# Altium footprint library MODULOS_RF.PcbLib: 10 footprints
Each footprint in its own frame and in the unit in brackets; x right, y up, seen from the top. Pads: shape width x height; smd on the part's side, far side on the other; paste and mask are expansions set on the pad; w line width, h text height; cw(c..) or ccw(c..) is an arc to the next point about the centre after c.
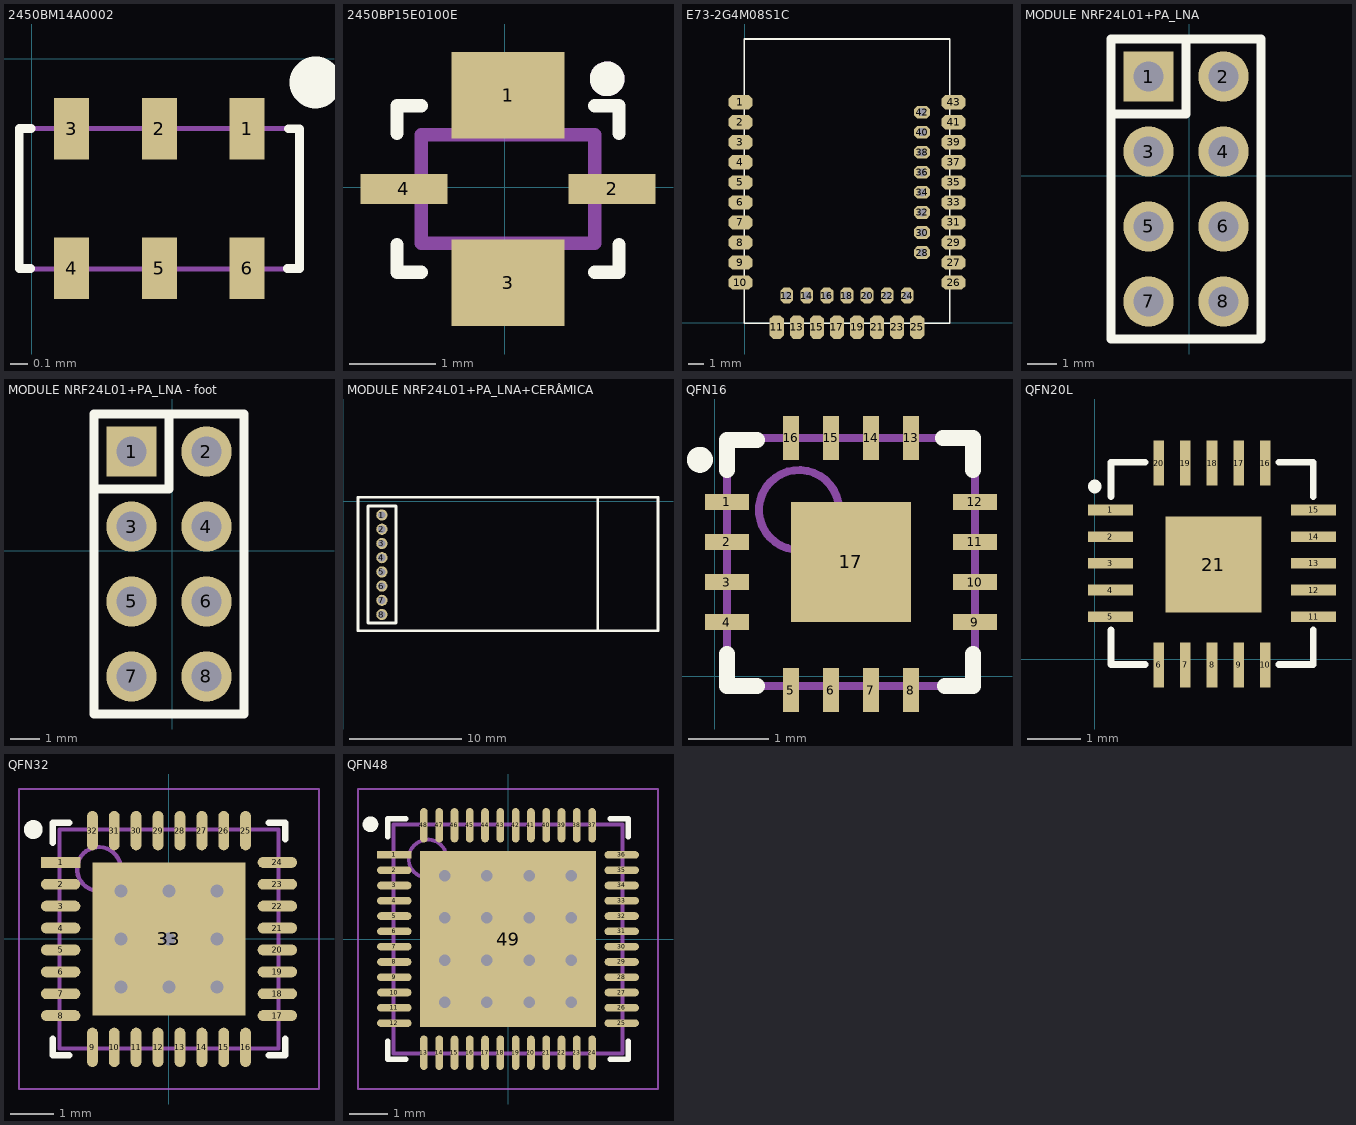
[diagram p0: the footprints below, top view; thin cyan lines are the x and y axes]

## 2450BM14A0002 [mm]
pads (6):
  rect 0.2x0.35 smd: 1(1.226,-0.4) 2(0.726,-0.4) 3(0.226,-0.4) 4(0.226,-1.195) 5(0.726,-1.195) 6(1.226,-1.195)
Top Overlay:
  lines w0.05: -0.007,-1.195 -0.072,-1.195 -0.073,-1.194 -0.073,-0.398 -0.005,-0.398 ; 1.456,-1.196 1.525,-1.196 1.525,-0.399 1.46,-0.399
  lines w0.254: 1.632,-0.124 ccw(c1.615,-0.135) 1.635,-0.139
Mechanical 4:
  lines w0.03: -0.074,-1.198 1.526,-1.198 ; -0.074,-1.198 -0.074,-0.398 ; -0.074,-1.198 1.526,-1.198 ; -0.074,-1.198 -0.074,-0.398 ; -0.074,-0.398 1.526,-0.398 ; -0.074,-0.398 1.526,-0.398 ; 1.526,-1.198 1.526,-0.398 ; 1.526,-1.198 1.526,-0.398
3D body: height 0.6, standoff 0, extent -0.073,-1.196 1.52,-0.399

## 2450BP15E0100E [mm]
pads (4):
  rect 1.3x1 smd: 1(0.038,1.06) 3(0.038,-1.1)
  rect 1x0.35 smd: 2(1.238,-0.02) 4(-1.162,-0.02)
Top Overlay:
  circle w0.2: c1.181,1.25 r0.1
  lines w0.152: -1.242,-0.66 -1.242,-0.98 -0.962,-0.98 ; -1.242,0.62 -1.242,0.94 -0.962,0.94 ; 1.038,-0.98 1.318,-0.98 1.318,-0.66 ; 1.038,0.94 1.318,0.94 1.318,0.62
Mechanical 4:
  circle w0.2: c1.181,1.25 r0.1
  circle w0.2: c1.181,1.25 r0.1
  lines w0.152: -0.962,-0.645 -0.962,0.605 ; -0.962,-0.645 1.038,-0.645 ; -0.962,-0.645 -0.962,0.605 ; -0.962,-0.645 1.038,-0.645 ; -0.962,0.605 1.038,0.605 ; -0.962,0.605 1.038,0.605 ; 1.038,-0.645 1.038,0.605 ; 1.038,-0.645 1.038,0.605
3D body: height 0.55, standoff 0, extent -1.234,-0.987 1.32,0.937

## E73-2G4M08S1C [mm] "nRF52840 2.4GHz SMD Wireless Module"
pads (43):
  oct 1.5x0.9 smd: 1(-0.273,13.97) 2(-0.273,12.7) 3(-0.273,11.43) 4(-0.273,10.16) 5(-0.273,8.89) 6(-0.273,7.62) 7(-0.273,6.35) 8(-0.273,5.08) 9(-0.273,3.81) 10(-0.273,2.54) 26(13.227,2.54) 27(13.227,3.81) 29(13.227,5.08) 31(13.227,6.35) 33(13.227,7.62) 35(13.227,8.89) 37(13.227,10.16) 39(13.227,11.43) 41(13.227,12.7) 43(13.227,13.97)
  oct 0.9x1.5 smd: 11(2.032,-0.28) 13(3.302,-0.28) 15(4.572,-0.28) 17(5.842,-0.28) 19(7.112,-0.28) 21(8.382,-0.28) 23(9.652,-0.28) 25(10.922,-0.28)
  oct 0.8x1 hole 0.508: 12(2.667,1.72) 14(3.937,1.72) 16(5.207,1.72) 18(6.477,1.72) 20(7.747,1.72) 22(9.017,1.72) 24(10.287,1.72)
  oct 1x0.8 hole 0.508: 28(11.227,4.445) 30(11.227,5.715) 32(11.227,6.985) 34(11.227,8.255) 36(11.227,9.525) 38(11.227,10.795) 40(11.227,12.065) 42(11.227,13.335)
Top Overlay:
  lines w0.1: -0.023,-0.03 -0.023,17.97 12.977,17.97 12.977,-0.03 -0.023,-0.03
3D body: height 1, standoff 0, extent -0.023,-0.03 12.977,17.97
3D body: height 3, standoff 1, extent 0.977,0.97 11.977,14.47
3D body: height 2.5, standoff 1, extent 0.977,15.47 11.977,17.47

## MODULE NRF24L01+PA_LNA [mm]
pads (8):
  rect 1.7x1.7 hole 1: 1(-1.382,3.357)
  round 1.7 hole 1: 2(1.158,3.357) 3(-1.382,0.817) 4(1.158,0.817) 5(-1.382,-1.723) 6(1.158,-1.723) 7(-1.382,-4.263) 8(1.158,-4.263)
Top Overlay:
  lines w0.305: -2.652,2.087 -0.112,2.087 -0.112,4.627 ; -2.652,-5.533 2.428,-5.533 2.428,4.627 -2.652,4.627 -2.652,-5.533
3D body "zl262-8d_p2-54_l10-66_w5_h8-5.stp": height 8.8, standoff -2.7, extent -2.613,-5.781 2.387,4.879
3D body "NRF24l01_with_antenna.STEP": height 102.45, standoff 3.76, extent -3.588,-7.9 70.412,7.35

## MODULE NRF24L01+PA_LNA - foot [mm]
pads (8):
  rect 1.7x1.7 hole 1: 1(-1.382,3.357)
  round 1.7 hole 1: 2(1.158,3.357) 3(-1.382,0.817) 4(1.158,0.817) 5(-1.382,-1.723) 6(1.158,-1.723) 7(-1.382,-4.263) 8(1.158,-4.263)
Top Overlay:
  lines w0.305: -2.652,2.087 -0.112,2.087 -0.112,4.627 ; -2.652,-5.533 2.428,-5.533 2.428,4.627 -2.652,4.627 -2.652,-5.533
3D body "zl262-8d_p2-54_l10-66_w5_h8-5.stp": height 8.8, standoff -2.7, extent -2.613,-5.781 2.387,4.879

## MODULE NRF24L01+PA_LNA+CERÂMICA [mm]
pads (8):
  round 1 hole 0.65: 1(3.467,-1.216) 2(3.467,-2.486) 3(3.467,-3.756) 4(3.467,-5.026) 5(3.467,-6.296) 6(3.467,-7.566) 7(3.467,-8.836) 8(3.467,-10.106)
Top Overlay:
  lines w0.254: 22.749,-11.369 22.749,0.25 ; 1.337,-11.556 28.101,-11.556 28.137,-11.556 28.137,0.312 28.137,0.374 1.337,0.374 1.337,-11.475 1.337,-11.556 ; 2.237,-10.858 2.237,-0.4 4.73,-0.4 4.73,-10.858 2.237,-10.858
3D body "BB02-NC081-X0X-442600_rev2.0.STEP": height 3.6, standoff -4.4, extent 2.237,-10.706 4.738,-0.546
3D body: height 1.7, standoff 1.2, extent 1.337,-11.626 28.137,0.374
3D body: height 1.27, standoff 0, extent -13.78,-0.16 -13.78,-0.16
3D body: height 2.3, standoff 1.71, extent 6.338,-6.276 10.837,-1.776
3D body: height 2.3, standoff 1.71, extent 7.338,-10.151 10.338,-7.901
3D body: height 2.3, standoff 1.71, extent 15.838,-5.151 19.838,-0.901
3D body: height 2.3, standoff 1.71, extent 26.337,-10.057 27.337,-0.995

## QFN16 [mm]
pads (17):
  rect 0.55x0.2 smd: 1(0.15,2.175) 2(0.15,1.675) 3(0.15,1.175) 4(0.15,0.675) 9(3.25,0.675) 10(3.25,1.175) 11(3.25,1.675) 12(3.25,2.175)
  rect 0.2x0.55 smd: 5(0.95,-0.175) 6(1.45,-0.175) 7(1.95,-0.175) 8(2.45,-0.175) 13(2.45,2.975) 14(1.95,2.975) 15(1.45,2.975) 16(0.95,2.975)
  rect 1.5x1.5 smd: 17(1.7,1.425)
Top Overlay:
  circle w0.254: c-0.189,2.703 r0.035
  lines w0.2: 0.15,0.275 0.15,-0.125 0.525,-0.125 ; 0.15,2.575 0.15,2.95 0.525,2.95 ; 2.85,2.975 3.225,2.975 3.225,2.575 ; 2.875,-0.125 3.225,-0.125 3.225,0.275
Mechanical 13:
  circle w0.1: c1.05,2.075 r0.5
  lines w0.1: 0.15,-0.125 0.15,2.975 3.25,2.975 3.25,-0.125 0.15,-0.125
Mechanical 15:
  lines w0.1: 1.2,1.425 2.2,1.425 ; 1.7,0.925 1.7,1.925
3D body "QFN50P300X300X55_HS-17N.step": height 0.55, standoff 0, extent 0.14,-0.135 3.26,2.985

## QFN20L [mm]
pads (21):
  rect 0.84x0.2 smd: 1(0.297,2.8) 2(0.297,2.3) 3(0.297,1.8) 4(0.297,1.3) 5(0.297,0.8) 11(4.103,0.8) 12(4.103,1.3) 13(4.103,1.8) 14(4.103,2.3) 15(4.103,2.8)
  rect 0.2x0.84 smd: 6(1.2,-0.103) 7(1.7,-0.103) 8(2.2,-0.103) 9(2.7,-0.103) 10(3.2,-0.103) 16(3.2,3.678) 17(2.7,3.678) 18(2.2,3.678) 19(1.7,3.678) 20(1.2,3.678)
  rect 1.8x1.8 smd: 21(2.225,1.775)
Top Overlay:
  lines w0.127: 0.305,0.55 0.305,-0.095 0.95,-0.095 ; 0.305,3.05 0.305,3.695 0.95,3.695 ; 3.45,-0.095 4.095,-0.095 4.095,0.55 ; 3.45,3.695 4.095,3.695 4.095,3.05
  lines w0.254: 0.003,3.239 ccw(c-0.545,3.168) 0.002,3.246
3D body "User Library-QFN20_4x4x0_8.STEP": height 0.78, standoff -0.02, extent 0.19,-0.21 4.21,3.81

## QFN32 [mm] "QFN, 32-Leads, Body 5,00x5,00mm, Pitch 0,50mm, Thermal Pad 3,50x3,50mm, IPC Low Density"
height 0.85
pads (33):
  rect 0.9x0.25 smd: 1(-2.475,1.75)
  oval 0.9x0.25 smd: 2(-2.475,1.25) 3(-2.475,0.75) 4(-2.475,0.25) 5(-2.475,-0.25) 6(-2.475,-0.75) 7(-2.475,-1.25) 8(-2.475,-1.75) 17(2.475,-1.75) 18(2.475,-1.25) 19(2.475,-0.75) 20(2.475,-0.25) 21(2.475,0.25) 22(2.475,0.75) 23(2.475,1.25) 24(2.475,1.75)
  oval 0.25x0.9 smd: 9(-1.75,-2.475) 10(-1.25,-2.475) 11(-0.75,-2.475) 12(-0.25,-2.475) 13(0.25,-2.475) 14(0.75,-2.475) 15(1.25,-2.475) 16(1.75,-2.475) 25(1.75,2.475) 26(1.25,2.475) 27(0.75,2.475) 28(0.25,2.475) 29(-0.25,2.475) 30(-0.75,2.475) 31(-1.25,2.475) 32(-1.75,2.475)
  rect 3.5x3.5 smd: 33(0,0)
via -1.1,1.1 diameter 0.6 hole 0.3
via 0,1.1 diameter 0.6 hole 0.3
via 1.1,1.1 diameter 0.6 hole 0.3
via -1.1,0 diameter 0.6 hole 0.3
via 0,0 diameter 0.6 hole 0.3
via 1.1,0 diameter 0.6 hole 0.3
via -1.1,-1.1 diameter 0.6 hole 0.3
via 0,-1.1 diameter 0.6 hole 0.3
via 1.1,-1.1 diameter 0.6 hole 0.3
Top Overlay:
  circle w0.25: c-3.1,2.5 r0.09
  lines w0.15: -2.65,-2.275 -2.65,-2.65 -2.275,-2.65 ; -2.65,2.2 -2.65,2.65 -2.275,2.65 ; 2.275,-2.65 2.65,-2.65 2.65,-2.275 ; 2.275,2.65 2.65,2.65 2.65,2.275
Mechanical 13:
  circle w0.1: c-1.6,1.6 r0.5
  lines w0.1: -2.5,-2.5 -2.5,2.5 2.5,2.5 2.5,-2.5 -2.5,-2.5
Mechanical 15:
  lines w0.05: -3.425,-3.425 -3.425,3.425 3.425,3.425 3.425,-3.425 -3.425,-3.425
  lines w0.1: -0.5,0 0.5,0 ; 0,-0.5 0,0.5
3D body "QFN50P500X500X85_HS-33M.step": height 0.85, standoff 0, extent -2.65,-2.65 2.65,2.65

## QFN48 [mm] "QFN, 48-Leads, Body 6,00x6,00mm, Pitch 0,40mm, Thermal Pad 4,60x4,60mm, IPC Low Density"
height 0.85
pads (49):
  rect 0.9x0.2 smd: 1(-2.975,2.2)
  oval 0.9x0.2 smd: 2(-2.975,1.8) 3(-2.975,1.4) 4(-2.975,1) 5(-2.975,0.6) 6(-2.975,0.2) 7(-2.975,-0.2) 8(-2.975,-0.6) 9(-2.975,-1) 10(-2.975,-1.4) 11(-2.975,-1.8) 12(-2.975,-2.2) 25(2.975,-2.2) 26(2.975,-1.8) 27(2.975,-1.4) 28(2.975,-1) 29(2.975,-0.6) 30(2.975,-0.2) 31(2.975,0.2) 32(2.975,0.6) 33(2.975,1) 34(2.975,1.4) 35(2.975,1.8) 36(2.975,2.2)
  oval 0.2x0.9 smd: 13(-2.2,-2.975) 14(-1.8,-2.975) 15(-1.4,-2.975) 16(-1,-2.975) 17(-0.6,-2.975) 18(-0.2,-2.975) 19(0.2,-2.975) 20(0.6,-2.975) 21(1,-2.975) 22(1.4,-2.975) 23(1.8,-2.975) 24(2.2,-2.975) 37(2.2,2.975) 38(1.8,2.975) 39(1.4,2.975) 40(1,2.975) 41(0.6,2.975) 42(0.2,2.975) 43(-0.2,2.975) 44(-0.6,2.975) 45(-1,2.975) 46(-1.4,2.975) 47(-1.8,2.975) 48(-2.2,2.975)
  rect 4.6x4.6 smd: 49(0,0)
via 1.65,-1.65 diameter 0.6 hole 0.3
via 0.55,-1.65 diameter 0.6 hole 0.3
via -0.55,-1.65 diameter 0.6 hole 0.3
via -1.65,-1.65 diameter 0.6 hole 0.3
via 1.65,-0.55 diameter 0.6 hole 0.3
via 0.55,-0.55 diameter 0.6 hole 0.3
via -0.55,-0.55 diameter 0.6 hole 0.3
via -1.65,-0.55 diameter 0.6 hole 0.3
via 1.65,0.55 diameter 0.6 hole 0.3
via 0.55,0.55 diameter 0.6 hole 0.3
via -0.55,0.55 diameter 0.6 hole 0.3
via -1.65,0.55 diameter 0.6 hole 0.3
via 1.65,1.65 diameter 0.6 hole 0.3
via 0.55,1.65 diameter 0.6 hole 0.3
via -0.55,1.65 diameter 0.6 hole 0.3
via -1.65,1.65 diameter 0.6 hole 0.3
Top Overlay:
  circle w0.25: c-3.6,3 r0.08
  lines w0.15: -3.15,-2.675 -3.15,-3.15 -2.675,-3.15 ; -3.15,2.675 -3.15,3.15 -2.675,3.15 ; 2.675,-3.15 3.15,-3.15 3.15,-2.675 ; 2.675,3.15 3.15,3.15 3.15,2.675
Mechanical 13:
  circle w0.1: c-2.1,2.1 r0.5
  lines w0.1: -3,-3 3,-3 3,3 -3,3 -3,-3
Mechanical 15:
  lines w0.05: -3.925,-3.925 3.925,-3.925 3.925,3.925 -3.925,3.925 -3.925,-3.925
  lines w0.1: -0.5,0 0.5,0 ; 0,-0.5 0,0.5
3D body "QFN40P600X600X85_HS-49M.step": height 0.85, standoff 0, extent -3.15,-3.15 3.15,3.15